# EAGLE library part DM385_DAVINCI (library texas)
DM385_AAR edit this description Auto generated by make-symbol-device-package-bsdl.ulp Rev. 43 Source: DM385_AAR.bsdl Connect-List generated from DM385.DEV Variant '' with connect-device-split-symbol.ulp
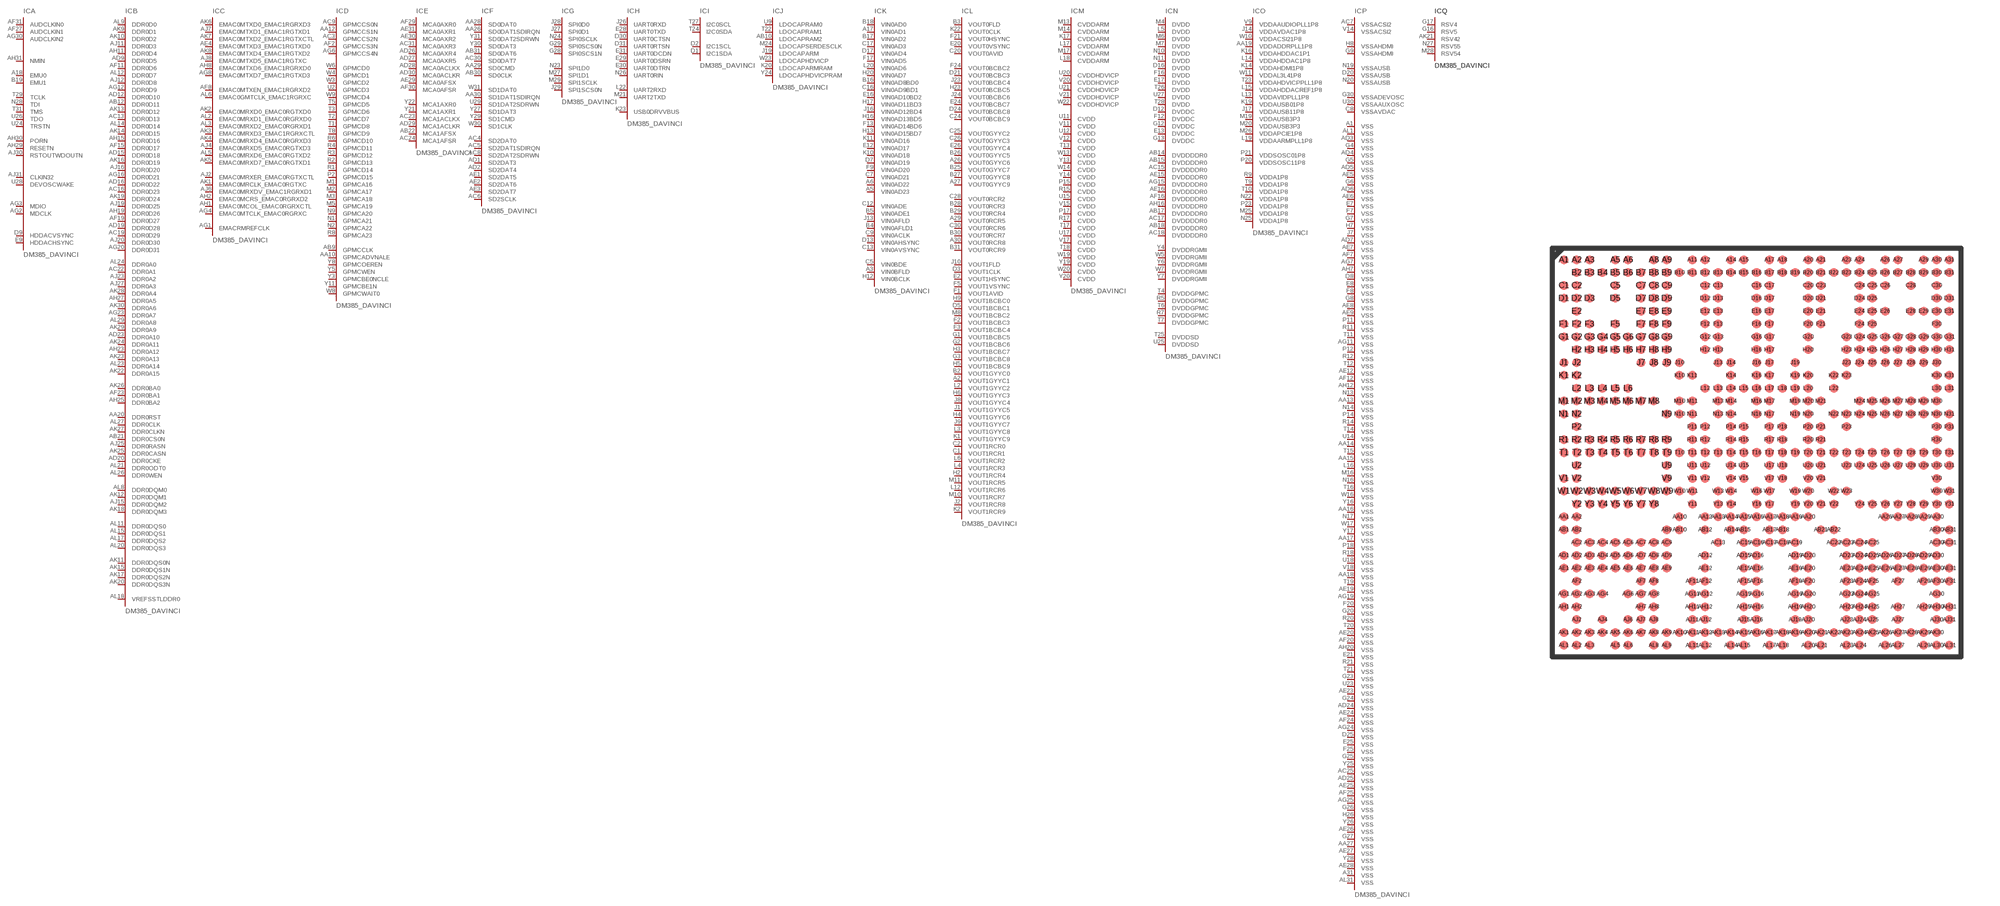
[diagram p112: symbol with the pads of AAR; footprint AAR]

Designator prefix IC; gates A=DM385_A B=DM385_DDR C=DM385_EMA D=DM385_GPM E=DM385_MCA F=DM385_SD G=DM385_SPI H=DM385_UART I=DM385_I2C K=DM385_VIN L=DM385_VOUT M=DM385_CVDD N=DM385_DVDD O=DM385_VDD P=DM385_VSS Q=DM385_RSV J=DM385_LDO

## DM385_DAVINCI  [AAR]
A1  P:VSS  pwr
A2  L:VOUT1GYYC1
A3  K:VIN0BFLD
A5  K:VIN0AD23
A6  K:VIN0AD22
A17  K:VIN0AD1
A18  A:EMU0
A26  L:VOUT0GYYC6
A27  L:VOUT0GYYC9
A29  L:VOUT0RCR5
A30  L:VOUT0RCR8
A31  P:VSS  pwr
AA10  D:GPMCADVNALE
AA12  D:GPMCCS1N
AA13  P:VSS  pwr
AA14  P:VSS  pwr
AA15  P:VSS  pwr
AA16  P:VSS  pwr
AA17  P:VSS  pwr
AA18  P:VSS  pwr
AA19  O:VDDADDRPLL1P8  pwr
AA20  B:DDR0RST
AA26  F:SD0DAT1SDIRQN
AA27  P:VSS  pwr
AA28  F:SD0DAT0
AA29  F:SD0CMD
AA30  F:SD1DAT1SDIRQN
AB9  D:GPMCCLK
AB10  J:LDOCAPRAM2  pas
AB12  B:DDR0D11
AB14  N:DVDDDDR0  pwr
AB15  N:DVDDDDR0  pwr
AB17  N:DVDDDDR0  pwr
AB18  N:DVDDDDR0  pwr
AB21  B:DDR0CS0N
AB22  E:MCA1AFSX
AB30  F:SD0CLK
AB31  F:SD0DAT6
AC3  D:GPMCCS2N
AC4  F:SD2DAT0
AC5  F:SD2DAT1SDIRQN
AC6  F:SD2SCLK
AC7  P:VSSACSI2  pwr
AC8  F:SD2DAT2SDRWN
AC9  D:GPMCCS0N
AC13  B:DDR0D13
AC15  N:DVDDDDR0  pwr
AC16  B:DDR0D23
AC17  N:DVDDDDR0  pwr
AC18  N:DVDDDDR0  pwr
AC19  B:DDR0D29
AC22  B:DDR0A1
AC23  E:MCA1ACLKX
AC24  E:MCA1AFSR
AC25  P:VSS  pwr
AC30  F:SD0DAT7
AC31  E:MCA0AXR3
AD1  F:SD2DAT3
AD2  F:SD2DAT4
AD3  P:VSS  pwr
AD4  P:VSS  pwr
AD5  P:VSS  pwr
AD6  P:VSS  pwr
AD7  P:VSS  pwr
AD9  B:DDR0D5
AD12  B:DDR0D10
AD15  B:DDR0D18
AD16  B:DDR0D22
AD19  B:DDR0D28
AD20  B:DDR0CKE
AD23  B:DDR0A10
AD24  P:VSS  pwr
AD25  P:VSS  pwr
AD26  E:MCA0AXR4
AD27  E:MCA0AXR5
AD28  E:MCA0ACLKX
AD29  E:MCA1ACLKR
AD30  E:MCA0ACLKR
AE1  F:SD2DAT5
AE2  F:SD2DAT6
AE3  F:SD2DAT7
AE4  C:EMAC0MTXD3_EMAC1RGTXD0
AE5  P:VSS  pwr
AE6  P:VSS  pwr
AE7  P:VSS  pwr
AE8  P:VSS  pwr
AE9  P:VSS  pwr
AE12  P:VSS  pwr
AE15  N:DVDDDDR0  pwr
AE16  N:DVDDDDR0  pwr
AE19  P:VSS  pwr
AE20  P:VSS  pwr
AE23  P:VSS  pwr
AE24  P:VSS  pwr
AE25  P:VSS  pwr
AE26  P:VSS  pwr
AE27  P:VSS  pwr
AE28  P:VSS  pwr
AE29  E:MCA0AFSX
AE30  E:MCA0AXR2
AE31  E:MCA0AXR1
AF2  D:GPMCCS3N
AF7  P:VSS  pwr
AF8  C:EMAC0MTXEN_EMAC1RGRXD2
AF11  B:DDR0D6
AF12  P:VSS  pwr
AF15  B:DDR0D17
AF16  N:DVDDDDR0  pwr
AF19  B:DDR0D27
AF20  P:VSS  pwr
AF23  B:DDR0BA1
AF24  P:VSS  pwr
AF25  P:VSS  pwr
AF27  A:AUDCLKIN1
AF29  E:MCA0AXR0
AF30  E:MCA0AFSR
AF31  A:AUDCLKIN0
AG1  C:EMACRMREFCLK
AG2  A:MDCLK
AG3  A:MDIO
AG4  C:EMAC0MTCLK_EMAC0RGRXC
AG6  D:GPMCCS4N
AG7  P:VSS  pwr
AG8  C:EMAC0MTXD7_EMAC1RGTXD3
AG11  P:VSS  pwr
AG12  B:DDR0D9
AG15  N:DVDDDDR0  pwr
AG16  B:DDR0D21
AG19  P:VSS  pwr
AG20  B:DDR0D31
AG23  B:DDR0A7
AG24  P:VSS  pwr
AG25  P:VSS  pwr
AG30  A:AUDCLKIN2
AH1  C:EMAC0MCOL_EMAC0RGRXCTL
AH2  C:EMAC0MCRS_EMAC0RGRXD2
AH7  P:VSS  pwr
AH8  C:EMAC0MTXD6_EMAC1RGRXD0
AH11  B:DDR0D4
AH12  P:VSS  pwr
AH15  B:DDR0D16
AH16  N:DVDDDDR0  pwr
AH19  B:DDR0D26
AH20  P:VSS  pwr
AH23  B:DDR0A12
AH25  B:DDR0BA2
AH27  B:DDR0A5
AH29  A:RESETN
AH30  A:PORN  in
AH31  A:NMIN
AJ2  C:EMAC0MRXER_EMAC0RGTXCTL
AJ4  C:EMAC0MRXD5_EMAC0RGTXD3
AJ6  C:EMAC0MRXDV_EMAC1RGRXD1
AJ7  C:EMAC0MTXD1_EMAC1RGTXD1
AJ8  C:EMAC0MTXD5_EMAC1RGTXC
AJ11  B:DDR0D3
AJ12  B:DDR0D8
AJ15  B:DDR0DQM2
AJ16  B:DDR0D20
AJ19  B:DDR0D25
AJ20  B:DDR0D30
AJ23  B:DDR0A2
AJ25  B:DDR0RASN
AJ27  B:DDR0A3
AJ30  A:RSTOUTWDOUTN
AJ31  A:CLKIN32
AK1  C:EMAC0MRCLK_EMAC0RGTXC
AK2  C:EMAC0MRXD0_EMAC0RGTXD0
AK3  C:EMAC0MRXD3_EMAC1RGRXCTL
AK4  C:EMAC0MRXD4_EMAC0RGRXD3
AK5  C:EMAC0MRXD7_EMAC0RGTXD1
AK6  C:EMAC0MTXD0_EMAC1RGRXD3
AK7  C:EMAC0MTXD2_EMAC1RGTXCTL
AK8  C:EMAC0MTXD4_EMAC1RGTXD2
AK9  B:DDR0D1
AK10  B:DDR0D2
AK11  B:DDR0DQS0N
AK12  B:DDR0DQM1
AK13  B:DDR0D12
AK14  B:DDR0D15
AK15  B:DDR0DQS1N
AK16  B:DDR0D19
AK17  B:DDR0DQS2N
AK18  B:DDR0DQM3
AK19  B:DDR0D24
AK20  B:DDR0DQS3N
AK21  Q:RSV42
AK22  B:DDR0A15
AK23  B:DDR0A13
AK24  B:DDR0A11
AK25  B:DDR0CASN
AK26  B:DDR0BA0
AK27  B:DDR0CLKN
AK28  B:DDR0A4
AK29  B:DDR0A9
AK30  B:DDR0A6
AL1  P:VSS  pwr
AL2  C:EMAC0MRXD1_EMAC0RGRXD0
AL3  C:EMAC0MRXD2_EMAC0RGRXD1
AL5  C:EMAC0MRXD6_EMAC0RGTXD2
AL6  C:EMAC0GMTCLK_EMAC1RGRXC
AL8  B:DDR0DQM0
AL9  B:DDR0D0
AL11  B:DDR0DQS0
AL12  B:DDR0D7
AL14  B:DDR0D14
AL15  B:DDR0DQS1
AL17  B:DDR0DQS2
AL18  B:VREFSSTLDDR0  pas
AL20  B:DDR0DQS3
AL21  B:DDR0ODT0
AL23  B:DDR0A14
AL24  B:DDR0A0
AL26  B:DDR0WEN
AL27  B:DDR0CLK
AL29  B:DDR0A8
AL31  P:VSS  pwr
B2  L:VOUT1GYYC0
B3  L:VOUT0FLD
B4  K:VIN0AFLD1
B5  K:VIN0ADE1
B16  K:VIN0AD8BD0
B17  K:VIN0AD2
B18  K:VIN0AD0
B19  A:EMU1
B25  L:VOUT0GYYC7
B26  L:VOUT0GYYC5
B27  L:VOUT0GYYC8
B28  L:VOUT0RCR3
B29  L:VOUT0RCR4
B30  L:VOUT0RCR7
B31  L:VOUT0RCR9
C1  L:VOUT1RCR1
C2  L:VOUT1RCR0
C5  K:VIN0BDE
C7  K:VIN0AD21
C8  P:VSSAVDAC  pwr
C9  K:VIN0ACLK
C12  K:VIN0ADE
C13  K:VIN0AVSYNC
C16  K:VIN0AD9BD1
C17  K:VIN0AD3
C20  L:VOUT0AVID
C24  L:VOUT0BCBC9
C25  L:VOUT0GYYC2
C26  L:VOUT0GYYC3
C28  L:VOUT0RCR2
C30  L:VOUT0RCR6
D1  I:I2C1SDA
D2  I:I2C1SCL
D3  L:VOUT1CLK
D5  L:VOUT1BCBC1
D7  K:VIN0AD19
D8  P:VSS  pwr
D9  A:HDDACVSYNC
D12  N:DVDDC  pwr
D13  K:VIN0AHSYNC
D16  N:DVDD  pwr
D17  K:VIN0AD4
D20  P:VSSAUSB  pwr
D21  L:VOUT0BCBC3
D24  L:VOUT0BCBC8
D25  P:VSS  pwr
D30  H:UART0CTSN
D31  H:UART0RTSN
E2  L:VOUT1HSYNC
E7  P:VSS  pwr
E8  P:VSS  pwr
E9  A:HDDACHSYNC
E12  K:VIN0AD17
E13  N:DVDDC  pwr
E16  K:VIN0AD10BD2
E17  N:DVDD  pwr
E20  L:VOUT0VSYNC
E21  P:VSS  pwr
E24  L:VOUT0BCBC7
E25  P:VSS  pwr
E26  L:VOUT0GYYC4
E28  H:UART0TXD
E29  H:UART0DSRN
E30  H:UART0DTRN
E31  H:UART0DCDN
F1  L:VOUT1AVID
F2  L:VOUT1BCBC3
F3  L:VOUT1BCBC4
F5  L:VOUT1VSYNC
F7  P:VSS  pwr
F8  P:VSS  pwr
F9  K:VIN0AD20
F12  N:DVDDC  pwr
F13  K:VIN0AD14BD6
F16  N:DVDD  pwr
F17  K:VIN0AD5
F20  P:VSS  pwr
F21  L:VOUT0HSYNC
F24  L:VOUT0BCBC2
F25  P:VSS  pwr
G1  L:VOUT1BCBC5
G2  L:VOUT1BCBC6
G3  L:VOUT1BCBC8
G4  P:VSS  pwr
G5  P:VSS  pwr
G6  P:VSS  pwr
G7  P:VSS  pwr
G8  P:VSS  pwr
G9  P:VSSAHDMI  pwr
G12  N:DVDDC  pwr
G13  N:DVDDC  pwr
G16  Q:RSV5  pas
G17  Q:RSV4  pas
G20  P:VSS  pwr
G23  P:VSS  pwr
G24  P:VSS  pwr
G25  P:VSS  pwr
G26  P:VSS  pwr
G27  P:VSS  pwr
G28  G:SPI0SCS1N
G29  G:SPI0SCS0N
G30  P:VSSADEVOSC  pwr
H2  L:VOUT1RCR4
H3  L:VOUT1BCBC7
H4  L:VOUT1GYYC6
H5  L:VOUT1BCBC9
H6  L:VOUT1GYYC3
H7  P:VSS  pwr
H8  P:VSSAHDMI  pwr
H9  L:VOUT1BCBC0
H12  K:VIN0BCLK
H13  K:VIN0AD15BD7
H16  K:VIN0AD13BD5
H17  K:VIN0AD11BD3
H20  K:VIN0AD7
H23  L:VOUT0BCBC5
H26  P:VSS  pwr
J1  L:VOUT1GYYC5
J2  L:VOUT1RCR8
J7  P:VSS  pwr
J8  L:VOUT1GYYC4
J9  L:VOUT1GYYC7
J10  L:VOUT1FLD
J13  K:VIN0AFLD
J14  O:VDDAVDAC1P8  pwr
J16  K:VIN0AD12BD4
J17  O:VDDAUSB11P8  pwr
J19  J:LDOCAPARM  pas
J23  L:VOUT0BCBC4
J24  L:VOUT0BCBC6
J26  H:UART0RXD
J27  G:SPI0D1
J28  G:SPI0D0
J29  G:SPI1SCS0N
K1  L:VOUT1GYYC9
K2  L:VOUT1RCR9
K10  K:VIN0AD18
K11  K:VIN0AD16
K14  O:VDDAHDMI1P8  pwr
K16  O:VDDAHDDAC1P1  pwr
K17  M:CVDDARM  pwr
K19  O:VDDAUSB01P8  pwr
K20  J:LDOCAPARMRAM  pas
K22  L:VOUT0CLK
K23  H:USB0DRVVBUS
L2  L:VOUT1GYYC2
L3  L:VOUT1GYYC8
L4  L:VOUT1RCR3
L5  N:DVDD  pwr
L6  L:VOUT1RCR2
L12  L:VOUT1RCR6
L13  O:VDDAVIDPLL1P8  pwr
L14  O:VDDAHDDAC1P8  pwr
L15  O:VDDAHDDACREF1P8  pwr
L16  P:VSS  pwr
L17  M:CVDDARM  pwr
L18  M:CVDDARM  pwr
L19  O:VDDAARMPLL1P8  pwr
L20  K:VIN0AD6
L22  H:UART2RXD
M1  D:GPMCA16
M2  D:GPMCA17
M3  D:GPMCA18
M4  N:DVDD  pwr
M5  D:GPMCA19
M6  N:DVDD  pwr
M7  N:DVDD  pwr
M8  L:VOUT1BCBC2
M10  L:VOUT1RCR7
M11  L:VOUT1RCR5
M13  M:CVDDARM  pwr
M14  M:CVDDARM  pwr
M16  P:VSS  pwr
M17  M:CVDDARM  pwr
M19  O:VDDAUSB3P3  pwr
M20  O:VDDAUSB3P3  pwr
M21  H:UART2TXD
M24  J:LDOCAPSERDESCLK  pas
M25  O:VDDA1P8  pwr
M26  O:VDDAPCIE1P8  pwr
M27  G:SPI1D1
M28  Q:RSV54  pas
M29  G:SPI1SCLK
N1  D:GPMCA21
N2  D:GPMCA22
N9  D:GPMCA20
N10  N:DVDD  pwr
N11  N:DVDD  pwr
N13  P:VSS  pwr
N14  P:VSS  pwr
N16  P:VSS  pwr
N17  P:VSS  pwr
N19  P:VSSAUSB  pwr
N20  P:VSSAUSB  pwr
N22  O:VDDA1P8  pwr
N23  G:SPI1D0
N24  G:SPI0SCLK
N25  O:VDDA1P8  pwr
N26  H:UART0RIN
N27  Q:RSV55  pas
N28  A:TDI  in
P2  D:GPMCD15
P11  P:VSS  pwr
P12  P:VSS  pwr
P14  P:VSS  pwr
P15  M:CVDD  pwr
P17  M:CVDD  pwr
P18  P:VSS  pwr
P20  O:VDDSOSC11P8  pwr
P21  O:VDDSOSC01P8  pwr
P23  O:VDDA1P8  pwr
R1  D:GPMCD14
R2  D:GPMCD13
R3  D:GPMCD12
R4  D:GPMCD11
R5  N:DVDDGPMC  pwr
R6  D:GPMCD10
R7  N:DVDDGPMC  pwr
R8  D:GPMCA23
R9  O:VDDA1P8  pwr
R11  P:VSS  pwr
R12  P:VSS  pwr
R14  P:VSS  pwr
R15  M:CVDD  pwr
R17  M:CVDD  pwr
R18  P:VSS  pwr
R20  P:VSS  pwr
R21  P:VSS  pwr
T1  D:GPMCD8
T2  D:GPMCD7
T3  D:GPMCD6
T4  N:DVDDGPMC  pwr
T5  D:GPMCD5
T6  N:DVDDGPMC  pwr
T7  N:DVDDGPMC  pwr
T8  D:GPMCD9
T9  O:VDDA1P8  pwr
T10  O:VDDA1P8  pwr
T11  P:VSS  pwr
T12  P:VSS  pwr
T13  M:CVDD  pwr
T14  P:VSS  pwr
T15  P:VSS  pwr
T16  P:VSS  pwr
T17  M:CVDD  pwr
T18  M:CVDD  pwr
T19  P:VSS  pwr
T20  P:VSS  pwr
T21  P:VSS  pwr
T22  J:LDOCAPRAM1  pas
T23  O:VDDAHDVICPPLL1P8  pwr
T24  I:I2C0SDA
T25  N:DVDDSD  pwr
T26  N:DVDD  pwr
T27  I:I2C0SCL
T28  N:DVDD  pwr
T29  A:TCLK  in
T31  A:TMS  in
U2  D:GPMCD3
U9  J:LDOCAPRAM0  pas
U11  M:CVDD  pwr
U12  M:CVDD  pwr
U14  P:VSS  pwr
U15  M:CVDD  pwr
U17  M:CVDD  pwr
U18  P:VSS  pwr
U20  M:CVDDHDVICP  pwr
U21  M:CVDDHDVICP  pwr
U23  P:VSS  pwr
U24  A:TRSTN  in
U25  N:DVDDSD  pwr
U26  A:TDO  out
U27  N:DVDD  pwr
U28  A:DEVOSCWAKE
U29  F:SD1DAT2SDRWN
U30  P:VSSAAUXOSC  pwr
V9  O:VDDAAUDIOPLL1P8  pwr
V11  M:CVDD  pwr
V12  M:CVDD  pwr
V14  P:VSSACSI2  pwr
V15  M:CVDD  pwr
V17  M:CVDD  pwr
V18  P:VSS  pwr
V20  M:CVDDHDVICP  pwr
V21  M:CVDDHDVICP  pwr
W3  D:GPMCD2
W4  D:GPMCD1
W5  N:DVDDRGMII  pwr
W6  D:GPMCD0
W7  N:DVDDRGMII  pwr
W8  D:GPMCWAIT0
W9  D:GPMCD4
W10  O:VDDACSI21P8  pwr
W11  O:VDDAL3L41P8  pwr
W13  M:CVDD  pwr
W14  M:CVDD  pwr
W16  P:VSS  pwr
W17  P:VSS  pwr
W19  M:CVDD  pwr
W20  M:CVDD  pwr
W22  M:CVDDHDVICP  pwr
W23  J:LDOCAPHDVICP  pas
W30  F:SD1CLK
W31  F:SD1DAT0
Y3  D:GPMCBE0NCLE
Y4  N:DVDDRGMII  pwr
Y5  D:GPMCWEN
Y6  N:DVDDRGMII  pwr
Y7  N:DVDDRGMII  pwr
Y8  D:GPMCOEREN
Y11  D:GPMCBE1N
Y13  M:CVDD  pwr
Y14  M:CVDD  pwr
Y16  P:VSS  pwr
Y17  P:VSS  pwr
Y19  M:CVDD  pwr
Y20  M:CVDD  pwr
Y21  E:MCA1AXR1
Y22  E:MCA1AXR0
Y24  J:LDOCAPHDVICPRAM  pas
Y25  P:VSS  pwr
Y26  P:VSS  pwr
Y27  F:SD1DAT3
Y28  P:VSS  pwr
Y29  F:SD1CMD
Y30  F:SD0DAT3
Y31  F:SD0DAT2SDRWN

## Footprint AAR (pad centres in mm)
DM385_AAR edit this description Auto generated by make-symbol-device-package-bsdl.ulp Rev. 43 Source: DM385_AAR.bsdl
smd 0.35 x 0.35: A1 -7.5,7.5; A2 -7,7.5; A3 -6.5,7.5; A5 -5.5,7.5; A6 -5,7.5; A8 -4,7.5; A9 -3.5,7.5; A11 -2.5,7.5; A12 -2,7.5; A14 -1,7.5; A15 -0.5,7.5; A17 0.5,7.5; A18 1,7.5; A20 2,7.5; A21 2.5,7.5; A23 3.5,7.5; A24 4,7.5; A26 5,7.5; A27 5.5,7.5; A29 6.5,7.5; A30 7,7.5; A31 7.5,7.5; AA1 -7.5,-2.5; AA2 -7,-2.5; AA10 -3,-2.5; AA12 -2,-2.5; AA13 -1.5,-2.5; AA14 -1,-2.5; AA15 -0.5,-2.5; AA16 0,-2.5; AA17 0.5,-2.5; AA18 1,-2.5; AA19 1.5,-2.5; AA20 2,-2.5; AA26 5,-2.5; AA27 5.5,-2.5; AA28 6,-2.5; AA29 6.5,-2.5; AA30 7,-2.5; AB1 -7.5,-3; AB2 -7,-3; AB9 -3.5,-3; AB10 -3,-3; AB12 -2,-3; AB14 -1,-3; AB15 -0.5,-3; AB17 0.5,-3; AB18 1,-3; AB21 2.5,-3; AB22 3,-3; AB30 7,-3; AB31 7.5,-3; AC2 -7,-3.5; AC3 -6.5,-3.5; AC4 -6,-3.5; AC5 -5.5,-3.5; AC6 -5,-3.5; AC7 -4.5,-3.5; AC8 -4,-3.5; AC9 -3.5,-3.5; AC13 -1.5,-3.5; AC15 -0.5,-3.5; AC16 0,-3.5; AC17 0.5,-3.5; AC18 1,-3.5; AC19 1.5,-3.5; AC22 3,-3.5; AC23 3.5,-3.5; AC24 4,-3.5; AC25 4.5,-3.5; AC30 7,-3.5; AC31 7.5,-3.5; AD1 -7.5,-4; AD2 -7,-4; AD3 -6.5,-4; AD4 -6,-4; AD5 -5.5,-4; AD6 -5,-4; AD7 -4.5,-4; AD8 -4,-4; AD9 -3.5,-4; AD12 -2,-4; AD15 -0.5,-4; AD16 0,-4; AD19 1.5,-4; AD20 2,-4; AD23 3.5,-4; AD24 4,-4; AD25 4.5,-4; AD26 5,-4; AD27 5.5,-4; AD28 6,-4; AD29 6.5,-4; AD30 7,-4; AE1 -7.5,-4.5; AE2 -7,-4.5; AE3 -6.5,-4.5; AE4 -6,-4.5; AE5 -5.5,-4.5; AE6 -5,-4.5; AE7 -4.5,-4.5; AE8 -4,-4.5; AE9 -3.5,-4.5; AE12 -2,-4.5; AE15 -0.5,-4.5; AE16 0,-4.5; AE19 1.5,-4.5; AE20 2,-4.5; AE23 3.5,-4.5; AE24 4,-4.5; AE25 4.5,-4.5; AE26 5,-4.5; AE27 5.5,-4.5; AE28 6,-4.5; AE29 6.5,-4.5; AE30 7,-4.5; AE31 7.5,-4.5; AF2 -7,-5; AF7 -4.5,-5; AF8 -4,-5; AF11 -2.5,-5; AF12 -2,-5; AF15 -0.5,-5; AF16 0,-5; AF19 1.5,-5; AF20 2,-5; AF23 3.5,-5; AF24 4,-5; AF25 4.5,-5; AF27 5.5,-5; AF29 6.5,-5; AF30 7,-5; AF31 7.5,-5; AG1 -7.5,-5.5; AG2 -7,-5.5; AG3 -6.5,-5.5; AG4 -6,-5.5; AG6 -5,-5.5; AG7 -4.5,-5.5; AG8 -4,-5.5; AG11 -2.5,-5.5; AG12 -2,-5.5; AG15 -0.5,-5.5; AG16 0,-5.5; AG19 1.5,-5.5; AG20 2,-5.5; AG23 3.5,-5.5; AG24 4,-5.5; AG25 4.5,-5.5; AG30 7,-5.5; AH1 -7.5,-6; AH2 -7,-6; AH7 -4.5,-6; AH8 -4,-6; AH11 -2.5,-6; AH12 -2,-6; AH15 -0.5,-6; AH16 0,-6; AH19 1.5,-6; AH20 2,-6; AH23 3.5,-6; AH24 4,-6; AH25 4.5,-6; AH27 5.5,-6; AH29 6.5,-6; AH30 7,-6; AH31 7.5,-6; AJ2 -7,-6.5; AJ4 -6,-6.5; AJ6 -5,-6.5; AJ7 -4.5,-6.5; AJ8 -4,-6.5; AJ11 -2.5,-6.5; AJ12 -2,-6.5; AJ15 -0.5,-6.5; AJ16 0,-6.5; AJ19 1.5,-6.5; AJ20 2,-6.5; AJ23 3.5,-6.5; AJ24 4,-6.5; AJ25 4.5,-6.5; AJ27 5.5,-6.5; AJ30 7,-6.5; AJ31 7.5,-6.5; AK1 -7.5,-7; AK2 -7,-7; AK3 -6.5,-7; AK4 -6,-7; AK5 -5.5,-7; AK6 -5,-7; AK7 -4.5,-7; AK8 -4,-7; AK9 -3.5,-7; AK10 -3,-7; AK11 -2.5,-7; AK12 -2,-7; AK13 -1.5,-7; AK14 -1,-7; AK15 -0.5,-7; AK16 0,-7; AK17 0.5,-7; AK18 1,-7; AK19 1.5,-7; AK20 2,-7; AK21 2.5,-7; AK22 3,-7; AK23 3.5,-7; AK24 4,-7; AK25 4.5,-7; AK26 5,-7; AK27 5.5,-7; AK28 6,-7; AK29 6.5,-7; AK30 7,-7; AL1 -7.5,-7.5; AL2 -7,-7.5; AL3 -6.5,-7.5; AL5 -5.5,-7.5; AL6 -5,-7.5; AL8 -4,-7.5; AL9 -3.5,-7.5; AL11 -2.5,-7.5; AL12 -2,-7.5; AL14 -1,-7.5; AL15 -0.5,-7.5; AL17 0.5,-7.5; AL18 1,-7.5; AL20 2,-7.5; AL21 2.5,-7.5; AL23 3.5,-7.5; AL24 4,-7.5; AL26 5,-7.5; AL27 5.5,-7.5; AL29 6.5,-7.5; AL30 7,-7.5; AL31 7.5,-7.5; B2 -7,7; B3 -6.5,7; B4 -6,7; B5 -5.5,7; B6 -5,7; B7 -4.5,7; B8 -4,7; B9 -3.5,7; B10 -3,7; B11 -2.5,7; B12 -2,7; B13 -1.5,7; B14 -1,7; B15 -0.5,7; B16 0,7; B17 0.5,7; B18 1,7; B19 1.5,7; B20 2,7; B21 2.5,7; B22 3,7; B23 3.5,7; B24 4,7; B25 4.5,7; B26 5,7; B27 5.5,7; B28 6,7; B29 6.5,7; B30 7,7; B31 7.5,7; C1 -7.5,6.5; C2 -7,6.5; C5 -5.5,6.5; C7 -4.5,6.5; C8 -4,6.5; C9 -3.5,6.5; C12 -2,6.5; C13 -1.5,6.5; C16 0,6.5; C17 0.5,6.5; C20 2,6.5; C23 2.5,6.5; C24 4,6.5; C25 4.5,6.5; C26 5,6.5; C28 6,6.5; C30 7,6.5; D1 -7.5,6; D2 -7,6; D3 -6.5,6; D5 -5.5,6; D7 -4.5,6; D8 -4,6; D9 -3.5,6; D12 -2,6; D13 -1.5,6; D16 0,6; D17 0.5,6; D20 2,6; D21 2.5,6; D24 4,6; D25 4.5,6; D30 7,6; D31 7.5,6; E2 -7,5.5; E7 -4.5,5.5; E8 -4,5.5; E9 -3.5,5.5; E12 -2,5.5; E13 -1.5,5.5; E16 0,5.5; E17 0.5,5.5; E20 2,5.5; E21 2.5,5.5; E24 4,5.5; E25 4.5,5.5; E26 5,5.5; E28 6,5.5; E29 6.5,5.5; E30 7,5.5; E31 7.5,5.5; F1 -7.5,5; F2 -7,5; F3 -6.5,5; F5 -5.5,5; F7 -4.5,5; F8 -4,5; F9 -3.5,5; F12 -2,5; F13 -1.5,5; F16 0,5; F17 0.5,5; F20 2,5; F21 2.5,5; F24 4,5; F25 4.5,5; F30 7,5; G1 -7.5,4.5; G2 -7,4.5; G3 -6.5,4.5; G4 -6,4.5; G5 -5.5,4.5; G6 -5,4.5; G7 -4.5,4.5; G8 -4,4.5; G9 -3.5,4.5; G12 -2,4.5; G13 -1.5,4.5; G16 0,4.5; G17 0.5,4.5; G20 2,4.5; G23 3.5,4.5; G24 4,4.5; G25 4.5,4.5; G26 5,4.5; G27 5.5,4.5; G28 6,4.5; G29 6.5,4.5; G30 7,4.5; G31 7.5,4.5; H2 -7,4; H3 -6.5,4; H4 -6,4; H5 -5.5,4; H6 -5,4; H7 -4.5,4; H8 -4,4; H9 -3.5,4; H12 -2,4; H13 -1.5,4; H16 0,4; H17 0.5,4; H20 2,4; H23 3.5,4; H24 4,4; H25 4.5,4; H26 5,4; H27 5.5,4; H28 6,4; H29 6.5,4; H30 7,4; H31 7.5,4; J1 -7.5,3.5; J2 -7,3.5; J7 -4.5,3.5; J8 -4,3.5; J9 -3.5,3.5; J10 -3,3.5; J13 -1.5,3.5; J14 -1,3.5; J16 0,3.5; J17 0.5,3.5; J19 1.5,3.5; J23 3.5,3.5; J24 4,3.5; J25 4.5,3.5; J26 5,3.5; J27 5.5,3.5; J28 6,3.5; J29 6.5,3.5; J30 7,3.5; K1 -7.5,3; K2 -7,3; K10 -3,3; K11 -2.5,3; K14 -1,3; K16 0,3; K17 0.5,3; K19 1.5,3; K20 2,3; K22 3,3; K23 3.5,3; K30 7,3; K31 7.5,3; L2 -7,2.5; L3 -6.5,2.5; L4 -6,2.5; L5 -5.5,2.5; L6 -5,2.5; L12 -2,2.5; L13 -1.5,2.5; L14 -1,2.5; L15 -0.5,2.5; L16 0,2.5; L17 0.5,2.5; L18 1,2.5; L19 1.5,2.5; L20 2,2.5; L22 3,2.5; L30 7,2.5; L31 7.5,2.5; M1 -7.5,2; M2 -7,2; M3 -6.5,2; M4 -6,2; M5 -5.5,2; M6 -5,2; M7 -4.5,2; M8 -4,2; M10 -3,2; M11 -2.5,2; M13 -1.5,2; M14 -1,2; M16 0,2; M17 0.5,2; M19 1.5,2; M20 2,2; M21 2.5,2; M24 4,2; M25 4.5,2; M26 5,2; M27 5.5,2; M28 6,2; M29 6.5,2; M30 7,2; N1 -7.5,1.5; N2 -7,1.5; N9 -3.5,1.5; N10 -3,1.5; N11 -2.5,1.5; N13 -1.5,1.5; N14 -1,1.5; N16 0,1.5; N17 0.5,1.5; N19 1.5,1.5; N20 2,1.5; N22 3,1.5; N23 3.5,1.5; N24 4,1.5; N25 4.5,1.5; N26 5,1.5; N27 5.5,1.5; N28 6,1.5; N29 6.5,1.5; N30 7,1.5; N31 7.5,1.5; P2 -7,1; P11 -2.5,1; P12 -2,1; P14 -1,1; P15 -0.5,1; P17 0.5,1; P18 1,1; P20 2,1; P21 2.5,1; P23 3.5,1; P30 7,1; P31 7.5,1; R1 -7.5,0.5; R2 -7,0.5; R3 -6.5,0.5; R4 -6,0.5; R5 -5.5,0.5; R6 -5,0.5; R7 -4.5,0.5; R8 -4,0.5; R9 -3.5,0.5; R11 -2.5,0.5; R12 -2,0.5; R14 -1,0.5; R15 -0.5,0.5; R17 0.5,0.5; R18 1,0.5; R20 2,0.5; R21 2.5,0.5; R30 7,0.5; T1 -7.5,0; T2 -7,0; T3 -6.5,0; T4 -6,0; T5 -5.5,0; T6 -5,0; T7 -4.5,0; T8 -4,0; T9 -3.5,0; T10 -3,0; T11 -2.5,0; T12 -2,0; T13 -1.5,0; T14 -1,0; T15 -0.5,0; T16 0,0; T17 0.5,0; T18 1,0; T19 1.5,0; T20 2,0; T21 2.5,0; T22 3,0; T23 3.5,0; T24 4,0; T25 4.5,0; T26 5,0; T27 5.5,0; T28 6,0; T29 6.5,0; T30 7,0; T31 7.5,0; U2 -7,-0.5; U9 -3.5,-0.5; U11 -2.5,-0.5; U12 -2,-0.5; U14 -1,-0.5; U15 -0.5,-0.5; U17 0.5,-0.5; U18 1,-0.5; U20 2,-0.5; U21 2.5,-0.5; U23 3.5,-0.5; U24 4,-0.5; U25 4.5,-0.5; U26 5,-0.5; U27 5.5,-0.5; U28 6,-0.5; U29 6.5,-0.5; U30 7,-0.5; U31 7.5,-0.5; V1 -7.5,-1; V2 -7,-1; V9 -3.5,-1; V11 -2.5,-1; V12 -2,-1; V14 -1,-1; V15 -0.5,-1; V17 0.5,-1; V18 1,-1; V20 2,-1; V21 2.5,-1; V30 7,-1; W1 -7.5,-1.5; W2 -7,-1.5; W3 -6.5,-1.5; W4 -6,-1.5; W5 -5.5,-1.5; W6 -5,-1.5; W7 -4.5,-1.5; W8 -4,-1.5; W9 -3.5,-1.5; W10 -3,-1.5; W11 -2.5,-1.5; W13 -1.5,-1.5; W14 -1,-1.5; W16 0,-1.5; W17 0.5,-1.5; W19 1.5,-1.5; W20 2,-1.5; W22 3,-1.5; W23 3.5,-1.5; W30 7,-1.5; W31 7.5,-1.5; Y2 -7,-2; Y3 -6.5,-2; Y4 -6,-2; Y5 -5.5,-2; Y6 -5,-2; Y7 -4.5,-2; Y8 -4,-2; Y11 -2.5,-2; Y13 -1.5,-2; Y14 -1,-2; Y16 0,-2; Y17 0.5,-2; Y19 1.5,-2; Y20 2,-2; Y21 2.5,-2; Y22 3,-2; Y24 4,-2; Y25 4.5,-2; Y26 5,-2; Y27 5.5,-2; Y28 6,-2; Y29 6.5,-2; Y30 7,-2; Y31 7.5,-2